# Altium footprint library MergenElektronik_Relays_PowerRelays.PcbLib: 1 footprints
Each footprint in its own frame and in the unit in brackets; x right, y up, seen from the top. Pads: shape width x height; smd on the part's side, far side on the other; paste and mask are expansions set on the pad; w line width, h text height; cw(c..) or ccw(c..) is an arc to the next point about the centre after c.
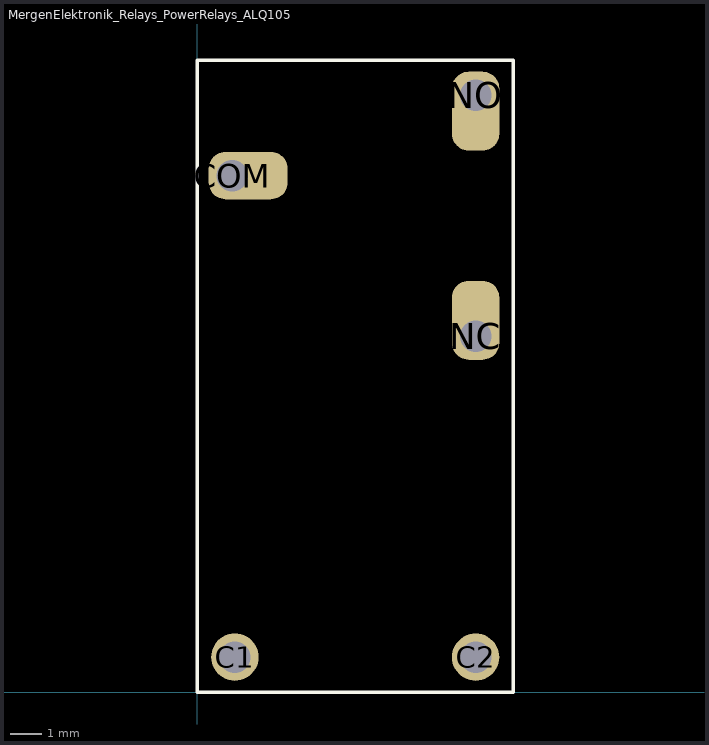
[diagram p0: the footprint, top view; thin cyan lines are the x and y axes]

## MergenElektronik_Relays_PowerRelays_ALQ105 [mm] "ALQ105"
pads (5):
  round 1.5 hole 1: C1(1.19,1.111) C2(8.81,1.11)
  rrect70% 2.5x1.5 hole 1 copper offset 0.5,0: COM(1.11,16.35)
  rrect70% 1.5x2.5 hole 1 copper offset 0,0.5: NC(8.81,11.27)
  rrect70% 1.5x2.5 hole 1 copper offset 0,-0.5: NO(8.81,18.89)
Top Overlay:
  lines w0.1: 0,0 10,0 10,20 0,20 0,0
3D body: height 16, standoff -3.8, extent 0,0 10,20